# EAGLE library part PINHD-7 (library m_connector)
7 Pin Header
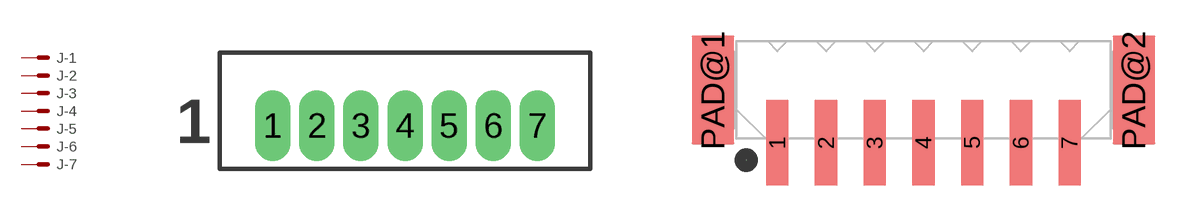
[diagram p5: symbol with the pads of MOLEX_53047-0710; footprints MOLEX_53047-0710, PHOENIX_PTSM_0,5/7-HV-2,5-SMD]

Designator prefix J; gates -1=M -2=M -3=M -4=M -5=M -6=M -7=M

## PINHD-7MOLEX-PICOBLADE (MANUF: Molex; PARTNUM: 53047-0710)  [MOLEX_53047-0710]
1  -1:S  pas
2  -2:S  pas
3  -3:S  pas
4  -4:S  pas
5  -5:S  pas
6  -6:S  pas
7  -7:S  pas

## PINHD-7PHOENIX_PTSM_0,5/7-HV0-2,5-SMD (MANUF: Phoenix; PARTNUM: 1839240; VALUE: Phoenix PTSM 0,5/7)  [PHOENIX_PTSM_0,5/7-HV-2,5-SMD]
Pads as for MOLEX_53047-0710

## Footprint MOLEX_53047-0710 (pad centres in mm)
Molex 53047 Series, 1.25mm Pitch, 7 Conductor Molex 1.25mm pitch through hole connector. Pre tinned phosphor bronze pins, mates with 51021 series.
drill 0.5 long: 1 -3.75,0; 2 -2.5,0; 3 -1.25,0; 4 0,0; 5 1.25,0; 6 2.5,0; 7 3.75,0

## Footprint PHOENIX_PTSM_0,5/7-HV-2,5-SMD (pad centres in mm)
Feed-through header - PTSM 0,5/ 7-HV0-2,5-SMD Data from Phoenix Contact Datasheet https://www.phoenixcontact.com/us/products/1839240 Added 2025-01-05
smd 1.2 x 4.4: 1 -7.5,-2.7; 2 -5,-2.7; 3 -2.5,-2.7; 4 0,-2.7; 5 2.5,-2.7; 6 5,-2.7; 7 7.5,-2.7
smd 2.2 x 5.6: PAD@1 -10.8,0; PAD@2 10.8,0